# EAGLE library part VS1002D_BREAKOUT (library vs1002d_breakout)
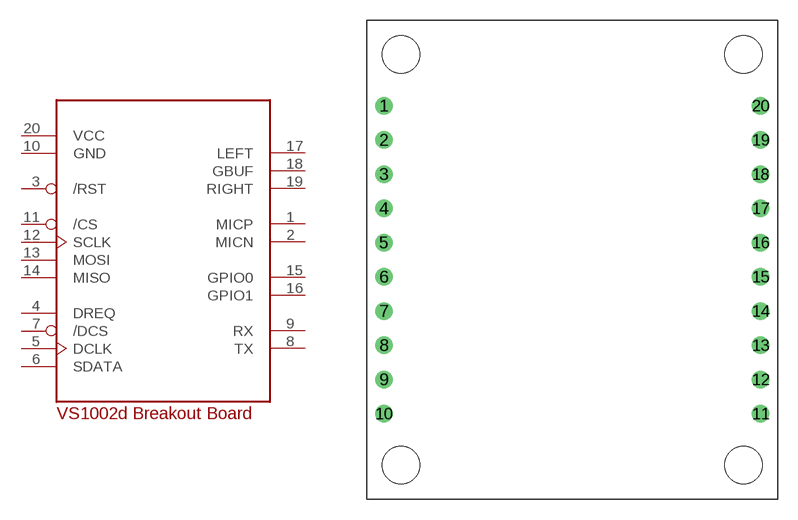
[diagram p0: symbol with the pads of VS1002D_BREAKOUT; footprint VS1002D_BREAKOUT]

Designator prefix -

## VS1002D_BREAKOUT  [VS1002D_BREAKOUT]
1  MICP
2  MICN
3  /RST
4  DREQ
5  DCLK
6  SDATA
7  /DCS
8  TX
9  RX
10  GND
11  /CS
12  SCLK
13  MOSI
14  MISO
15  GPIO0
16  GPIO1
17  LEFT
18  GBUF
19  RIGHT
20  VCC

## Footprint VS1002D_BREAKOUT (pad centres in mm)
drill 0.8 round: 1 1.27,29.21; 2 1.27,26.67; 3 1.27,24.13; 4 1.27,21.59; 5 1.27,19.05; 6 1.27,16.51; 7 1.27,13.97; 8 1.27,11.43; 9 1.27,8.89; 10 1.27,6.35; 11 29.21,6.35; 12 29.21,8.89; 13 29.21,11.43; 14 29.21,13.97; 15 29.21,16.51; 16 29.21,19.05; 17 29.21,21.59; 18 29.21,24.13; 19 29.21,26.67; 20 29.21,29.21
hole 2.8 at 2.54,33.02
hole 2.8 at 2.54,2.54
hole 2.8 at 27.94,2.54
hole 2.8 at 27.94,33.02